# Altium footprint library 3.16-变压器.PcbLib: 7 footprints
Each footprint in its own frame and in the unit in brackets; x right, y up, seen from the top. Pads: shape width x height; smd on the part's side, far side on the other; paste and mask are expansions set on the pad; w line width, h text height; cw(c..) or ccw(c..) is an arc to the next point about the centre after c.
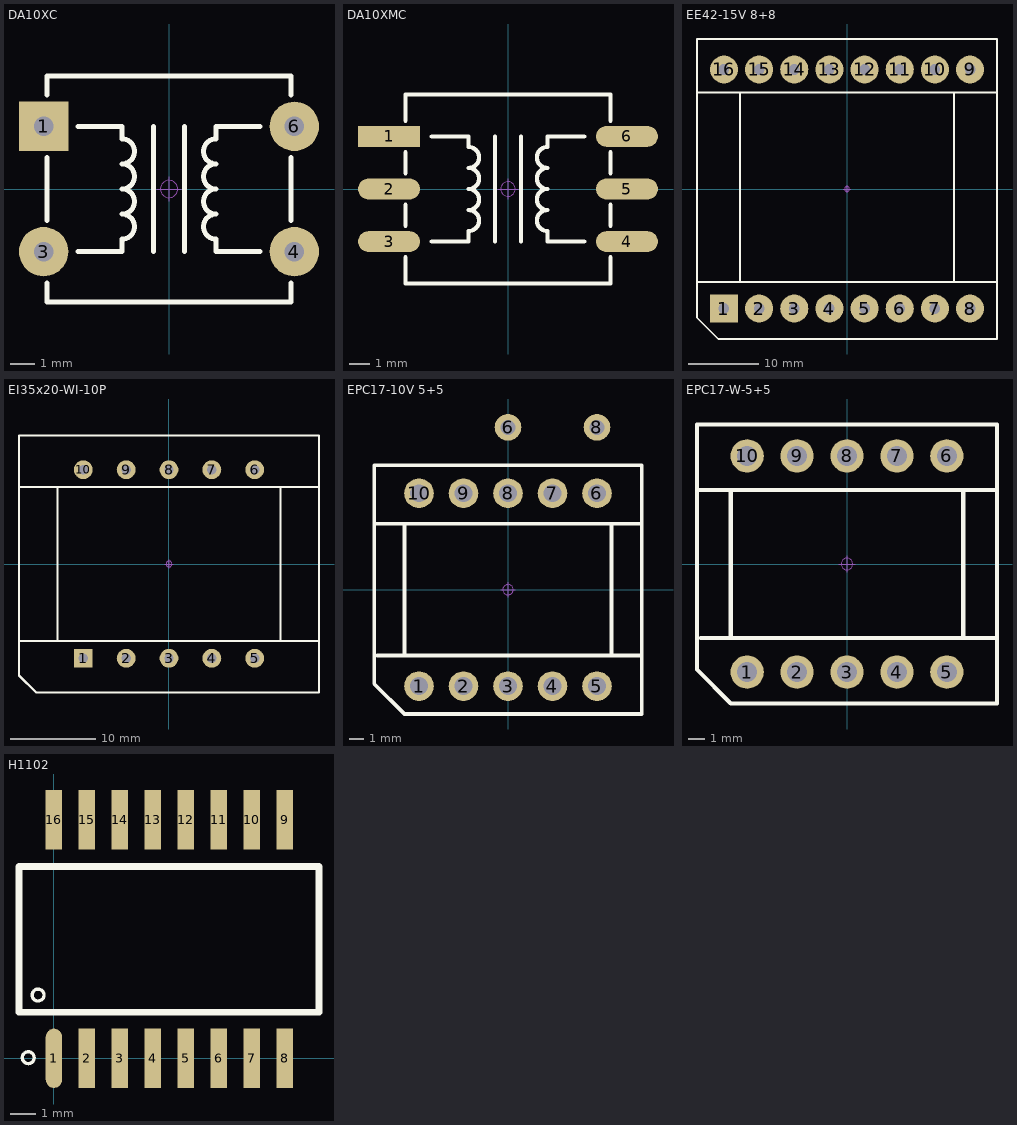
[diagram p0: the footprints below, top view; thin cyan lines are the x and y axes]

## DA10XC [mm] "9mm*9.52mm*6.35mm(长*宽*高)  淘宝ID:黄晶宝石"
pads (4):
  rect 2x2 hole 0.8 unplated: 1(-5.08,2.54)
  round 2 hole 0.8 unplated: 3(-5.08,-2.54) 4(5.08,-2.54) 6(5.08,2.54)
Top Overlay:
  lines w0.203: -4.953,-3.81 -4.953,-4.572 4.953,-4.572 4.953,-3.81 ; -4.953,-1.27 -4.953,1.27 ; -4.953,3.81 -4.953,4.572 4.953,4.572 4.953,3.81 ; -3.683,-2.54 -1.905,-2.54 -1.905,-2.032 ccw(c-1.905,-1.524) -1.905,-1.016 ccw(c-1.905,-0.508) -1.905,0 ccw(c-1.905,0.508) -1.905,1.016 ccw(c-1.905,1.524) -1.905,2.032 -1.905,2.54 -3.683,2.54 ; -0.635,-2.54 -0.635,2.54 ; 0.635,-2.54 0.635,2.54 ; 3.683,-2.54 1.905,-2.54 1.905,-2.032 cw(c1.905,-1.524) 1.905,-1.016 cw(c1.905,-0.508) 1.905,0 cw(c1.905,0.508) 1.905,1.016 cw(c1.905,1.524) 1.905,2.032 1.905,2.54 3.683,2.54 ; 4.953,-1.27 4.953,1.27
Mechanical 15:
  circle w0.05: c0,0 r0.35
  lines w0.05: -0.5,0 0.5,0 ; 0,-0.5 0,0.5
3D body "DA10XC.STEP": height 6.4, standoff -3.45, extent -5.205,-4.5 5.205,4.5

## DA10XMC [mm] "9mm*9.52mm*6.35mm(长*宽*高)  淘宝ID:黄晶宝石"
pads (6):
  rect 3x1 smd: 1(-5.75,2.54)
  oval 3x1 smd: 2(-5.75,0) 3(-5.75,-2.54) 4(5.75,-2.54) 5(5.75,0) 6(5.75,2.54)
Top Overlay:
  lines w0.203: -4.953,-3.302 -4.953,-4.572 4.953,-4.572 4.953,-3.302 ; -4.953,-1.778 -4.953,-0.762 ; -4.953,0.762 -4.953,1.778 ; -4.953,3.302 -4.953,4.572 4.953,4.572 4.953,3.302 ; -3.683,-2.54 -1.905,-2.54 -1.905,-2.032 ccw(c-1.905,-1.524) -1.905,-1.016 ccw(c-1.905,-0.508) -1.905,0 ccw(c-1.905,0.508) -1.905,1.016 ccw(c-1.905,1.524) -1.905,2.032 -1.905,2.54 -3.683,2.54 ; -0.635,-2.54 -0.635,2.54 ; 0.635,-2.54 0.635,2.54 ; 3.683,-2.54 1.905,-2.54 1.905,-2.032 cw(c1.905,-1.524) 1.905,-1.016 cw(c1.905,-0.508) 1.905,0 cw(c1.905,0.508) 1.905,1.016 cw(c1.905,1.524) 1.905,2.032 1.905,2.54 3.683,2.54 ; 4.953,-1.778 4.953,-0.762 ; 4.953,0.762 4.953,1.778
Mechanical 15:
  circle w0.05: c0,0 r0.35
  lines w0.05: -0.5,0 0.5,0 ; 0,-0.5 0,0.5
3D body "DA10XMC.STEP": height 6.45, standoff -0.03, extent -6.35,-4.5 6.35,4.5

## EE42-15V 8+8 [mm] "磁芯 42mm  宽42mm  高32mm"
pads (16):
  rect 4x4 hole 1.5: 1(-17.5,-17)
  round 4 hole 1.5: 2(-12.5,-17) 3(-7.5,-17) 4(-2.5,-17) 5(2.5,-17) 6(7.5,-17) 7(12.5,-17) 8(17.5,-17) 9(17.5,17) 10(12.5,17) 11(7.5,17) 12(2.5,17) 13(-2.5,17) 14(-7.5,17) 15(-12.5,17) 16(-17.5,17)
Top Overlay:
  lines w0.254: -21.336,-13.208 21.336,-13.208 ; -21.336,13.716 21.336,13.716 ; -15.24,-13.208 -15.24,13.716 ; 15.24,-13.208 15.24,13.716 ; -21.336,-18.288 -21.336,21.336 21.336,21.336 21.336,-21.336 -18.288,-21.336 -21.336,-18.288
Mechanical 15:
  circle w0.05: c0,0 r0.35
  lines w0.05: -0.5,0 0.5,0 ; 0,-0.5 0,0.5
3D body "EE42-15 8+8.STEP": height 31.55, standoff -3.15, extent -21.1,-21.1 21.1,21.1

## EI35x20-WI-10P [mm] "长：35mm，宽：30mm，高：33mm  淘宝ID:黄晶宝石"
pads (10):
  rect 2.2x2.2 hole 1.1: 1(-10,-11)
  round 2.2 hole 1.1: 2(-5,-11) 3(0,-11) 4(5,-11) 5(10,-11) 6(10,11) 7(5,11) 8(0,11) 9(-5,11) 10(-10,11)
Top Overlay:
  lines w0.254: -17.5,-9 17.5,-9 ; -17.5,9 17.5,9 ; -13,-9 -13,9 ; 13,-9 13,9 ; -17.5,-13 -15.5,-15 17.5,-15 17.5,15 -17.5,15 -17.5,-13
Mechanical 15:
  circle w0.05: c0,0 r0.35
  lines w0.05: -0.5,0 0.5,0 ; 0,-0.5 0,0.5
3D body "EI35x20-WI-10P.STEP": height 33.05, standoff -3.45, extent -17.5,-15 17.5,15

## EPC17-10V 5+5 [mm] "磁芯17mm，高10mm，脚距3mm，  淘宝ID:黄晶宝石"
pads (12):
  round 2 hole 1.2: 1(-6,-6.5) 2(-3,-6.5) 3(0,-6.5) 4(3,-6.5) 5(6,-6.5) 6(6,6.5) 7(3,6.5) 8(0,6.5) 9(-3,6.5) 10(-6,6.5)
  round 1.8 hole 1: 6(0,10.945) 8(6,10.945)
Top Overlay:
  lines w0.254: -9.017,4.445 9.017,4.445 ; -8.794,-4.445 9.017,-4.445 ; -6.985,-4.445 -6.985,4.445 ; 6.985,-4.445 6.985,4.445 ; -9.017,-6.35 -9.017,8.382 9.017,8.382 9.017,-8.382 -6.985,-8.382 -9.017,-6.35
Mechanical 15:
  circle w0.05: c0,0 r0.35
  lines w0.05: -0.5,0 0.5,0 ; 0,-0.5 0,0.5
3D body "EPC17-10 5+5.STEP": height 9.75, standoff -3.15, extent -8.75,-8.1 8.75,8.1

## EPC17-W-5+5 [mm] "磁芯17mm，高10mm，脚距3mm， 淘宝ID:黄晶宝石"
pads (10):
  round 2 hole 1.2: 1(-6,-6.5) 2(-3,-6.5) 3(0,-6.5) 4(3,-6.5) 5(6,-6.5) 6(6,6.5) 7(3,6.5) 8(0,6.5) 9(-3,6.5) 10(-6,6.5)
Top Overlay:
  lines w0.254: -9.017,4.445 9.017,4.445 ; -8.794,-4.445 9.017,-4.445 ; -6.985,-4.445 -6.985,4.445 ; 6.985,-4.445 6.985,4.445 ; -9.017,-6.35 -6.985,-8.382 9.017,-8.382 9.017,8.382 -9.017,8.382 -9.017,-6.35
Mechanical 15:
  circle w0.05: c0,0 r0.35
  lines w0.05: -0.5,0 0.5,0 ; 0,-0.5 0,0.5
3D body "EPC17-10 5+5.STEP": height 9.75, standoff -3.15, extent -8.75,-8.1 8.75,8.1

## H1102 [mil]
height 23.62
pads (16):
  oval 25x90 smd: 1(0,0)
  rect 25x90 smd: 2(50,0) 3(100,0) 4(150,0) 5(200,0) 6(250,0) 7(300,0) 8(350,0) 9(350,362) 10(300,362) 11(250,362) 12(200,362) 13(150,362) 14(100,362) 15(50,362) 16(0,362)
Top Overlay:
  circle w5: c-24,96 r9
  circle w5: c-39,1 r9
  lines w10: -53,70 -53,291 402,291 402,70 -53,70
3D body: height 96.46, standoff 1.09, extent -67.38,55.17 417.62,305.17